# Altium schematic symbol library SCH - POWER - LINEAR VREG - ONSEMI NCP59744 DFN-10.SchLib: 1 symbol
Pins are listed as number, name and electrical type; pins without a type are passive.

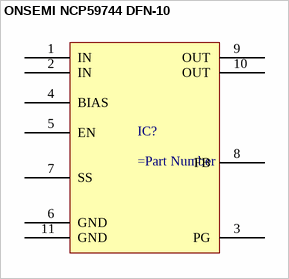
[diagram p0: symbol ONSEMI NCP59744 DFN-10]

## ONSEMI NCP59744 DFN-10
designator IC?
pins: 1 IN, 2 IN, 3 PG, 4 BIAS, 5 EN, 6 GND, 7 SS, 8 FB, 9 OUT, 10 OUT, 11 GND